# EAGLE library part ASMT-YWB1-NGJB2 (library alarm)
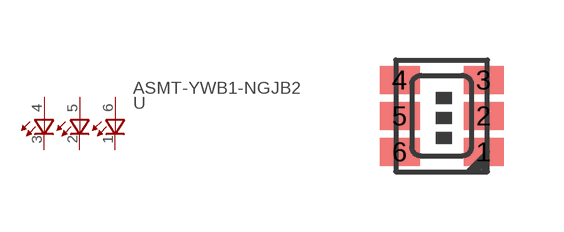
[diagram p0: symbol with the pads of ASMT-YWB1-NGJB2; footprint ASMT-YWB1-NGJB2]

Designator prefix -

## ASMT-YWB1-NGJB2  [ASMT-YWB1-NGJB2]
1  1  pas
2  2  pas
3  3  pas
4  4  pas
5  5  pas
6  6  pas

## Footprint ASMT-YWB1-NGJB2 (pad centres in mm)
smd 1 x 0.7: 1 2.2,-2.3; 2 2.2,-1.4; 3 2.2,-0.5; 4 0.1,-0.5; 5 0.1,-1.4; 6 0.1,-2.3